# EAGLE library part XB3-24Z8UT-J (library XB3-24Z8UT-J)
Zigbee Modules (802.15.4) XBee3,2.4 Ghz ZB 3.0, U.FL Ant, TH MT Source: Datasheet <https://componentsearchengine.com/Datasheets/1/XB3-24Z8UT-J.pdf>
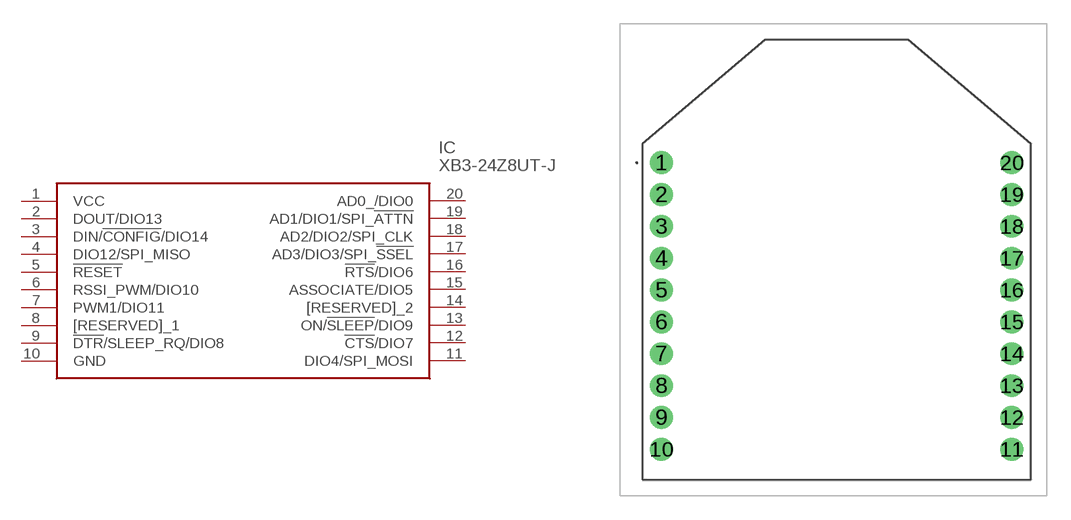
[diagram p0: symbol with the pads of XB324Z8UTJ; footprint XB324Z8UTJ]

Designator prefix IC

## XB3-24Z8UT-J (Description: Zigbee Modules (802.15.4) XBee3,2.4 Ghz ZB 3.0, U.FL Ant, TH MT; Height: 2.79mm; Manufacturer_Name: Digi International; Manufacturer_Part_Number: XB3-24Z8UT-J; Mouser_Part_Number: 888-XB3-24Z8UT-J; Mouser_Price-Stock: https://www.mouser.com/Search/Refine.aspx?Keyword=888-XB3-24Z8UT-J)  [XB324Z8UTJ]
1  VCC
2  DOUT/DIO13
3  DIN/!CONFIG!/DIO14
4  DIO12/SPI_MISO
5  !RESET
6  RSSI_PWM/DIO10
7  PWM1/DIO11
8  [RESERVED]_1
9  !DTR!/SLEEP_RQ/DIO8
10  GND
11  DIO4/SPI_MOSI
12  !CTS!/DIO7
13  ON/!SLEEP!/DIO9
14  [RESERVED]_2
15  ASSOCIATE/DIO5
16  !RTS!/DIO6
17  AD3/DIO3/SPI_!SSEL
18  AD2/DIO2/SPI_CLK
19  AD1/DIO1/SPI_!ATTN
20  AD0_/DIO0

## Footprint XB324Z8UTJ (pad centres in mm)
XBEE3 UFL ANT PTH
drill 0.92 pad 1.431: 1 0,0; 2 0,-2; 3 0,-4; 4 0,-6; 5 0,-8; 6 0,-10; 7 0,-12; 8 0,-14; 9 0,-16; 10 0,-18; 11 22,-18; 12 22,-16; 13 22,-14; 14 22,-12; 15 22,-10; 16 22,-8; 17 22,-6; 18 22,-4; 19 22,-2; 20 22,0